# Altium integrated library ControllorBord.IntLib: 32 symbols
Pins are listed as number, name and electrical type; pins without a type are passive.

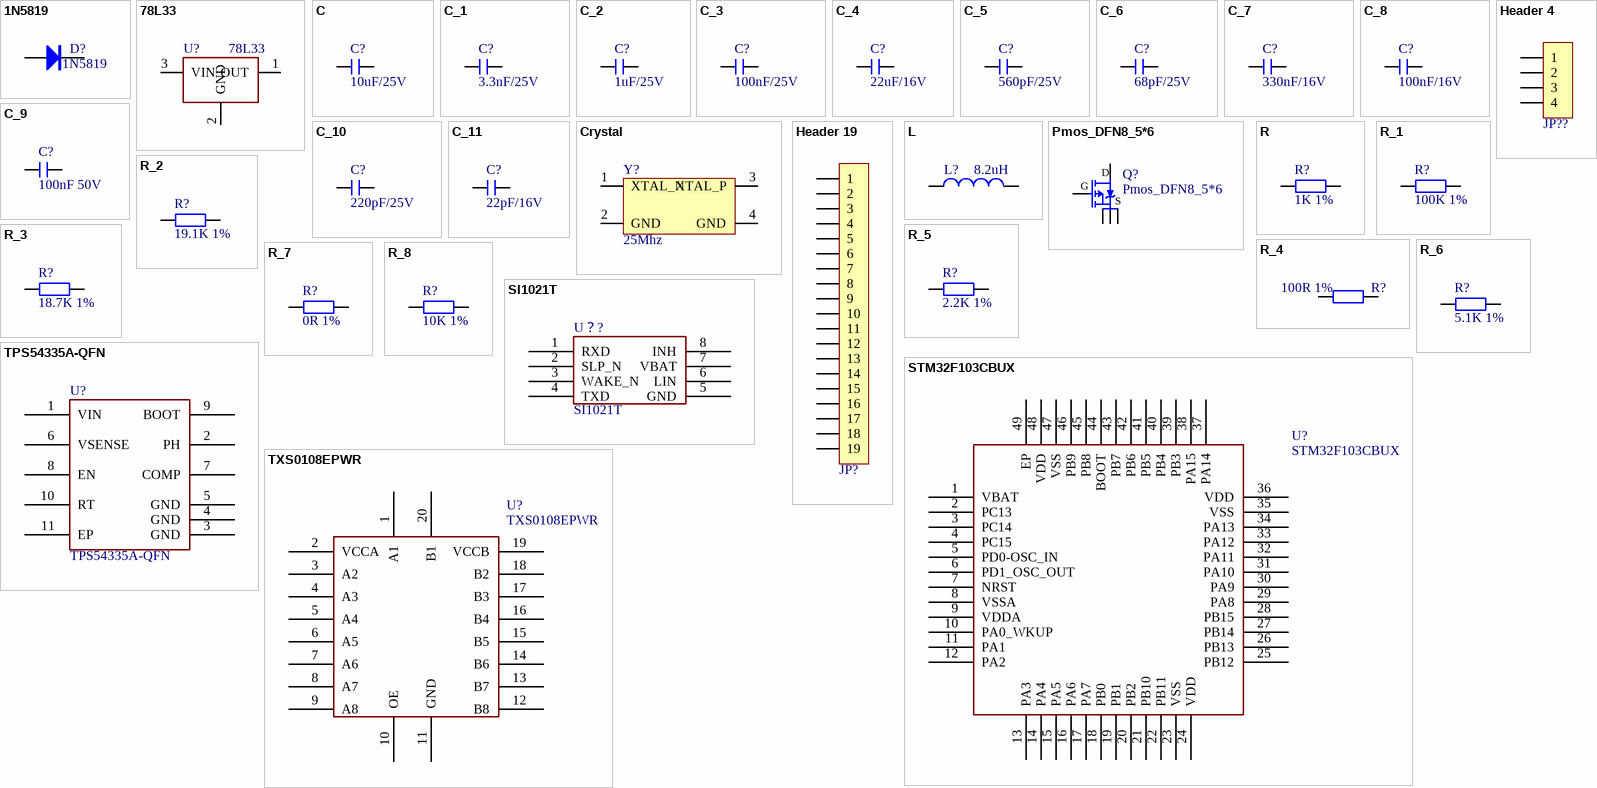
[diagram p0: symbols 1N5819 to TXS0108EPWR]

## 1N5819
designator D?
肖特基二极管; 版权归属: 源创客; 属性: 40V/2A; BOM名称: 肖特基二极管; 学习资源: www.ooocke.com
footprint SOD-323 (1.8x1.3X0.9mm（长宽高，不包括引脚）)
footprint SOD-123 (2.7x1.6X1.1mm（长宽高，不包括引脚）)
pins: 1 A, 2 K

## 78L33
designator U?
footprint SOT89_L (4.6x4.3x1.6mm(长宽高))
pins: 1 OUT, 2 GND, 3 VIN

## C
designator C?, comment 10uF/25V
无极性贴片电容; 版权归属: 源创客; 材质: X7R; BOM名称: 无极性贴片电容; 学习资源: www.ooocke.com
footprint c0603_l (贴片MLCC电容)
pins: 1, 2

## C_1
designator C?, comment 3.3nF/25V
无极性贴片电容; 版权归属: 源创客; 材质: X7R; BOM名称: 无极性贴片电容; 学习资源: www.ooocke.com
footprint c0603_l (贴片MLCC电容)
pins: 1, 2

## C_2
designator C?, comment 1uF/25V
无极性贴片电容; 版权归属: 源创客; 材质: X7R; BOM名称: 无极性贴片电容; 学习资源: www.ooocke.com
footprint c0603_l (贴片MLCC电容)
pins: 1, 2

## C_3
designator C?, comment 100nF/25V
无极性贴片电容; 版权归属: 源创客; 材质: X7R; BOM名称: 无极性贴片电容; 学习资源: www.ooocke.com
footprint c0603_l (贴片MLCC电容)
pins: 1, 2

## C_4
designator C?, comment 22uF/16V
无极性贴片电容; 版权归属: 源创客; 材质: X7R; BOM名称: 无极性贴片电容; 学习资源: www.ooocke.com
footprint c0603_l (贴片MLCC电容)
pins: 1, 2

## C_5
designator C?, comment 560pF/25V
无极性贴片电容; 版权归属: 源创客; 材质: X7R; BOM名称: 无极性贴片电容; 学习资源: www.ooocke.com
footprint c0603_l (贴片MLCC电容)
pins: 1, 2

## C_6
designator C?, comment 68pF/25V
无极性贴片电容; 版权归属: 源创客; 材质: X7R; BOM名称: 无极性贴片电容; 学习资源: www.ooocke.com
footprint c0603_l (贴片MLCC电容)
pins: 1, 2

## C_7
designator C?, comment 330nF/16V
无极性贴片电容; 版权归属: 源创客; 材质: X7R; BOM名称: 无极性贴片电容; 学习资源: www.ooocke.com
footprint c0603_l (贴片MLCC电容)
pins: 1, 2

## C_8
designator C?, comment 100nF/16V
无极性贴片电容; 版权归属: 源创客; 材质: X7R; BOM名称: 无极性贴片电容; 学习资源: www.ooocke.com
footprint c0603_l (贴片MLCC电容)
pins: 1, 2

## C_9
designator C?, comment 100nF 50V
无极性贴片电容; 版权归属: 源创客; 材质: X7R; BOM名称: 无极性贴片电容; 学习资源: www.ooocke.com
footprint c0603_l (贴片MLCC电容)
pins: 1, 2

## C_10
designator C?, comment 220pF/25V
无极性贴片电容; 版权归属: 源创客; 材质: X7R; BOM名称: 无极性贴片电容; 学习资源: www.ooocke.com
footprint c0603_l (贴片MLCC电容)
pins: 1, 2

## C_11
designator C?, comment 22pF/16V
无极性贴片电容; 版权归属: 源创客; 材质: X7R; BOM名称: 无极性贴片电容; 学习资源: www.ooocke.com
footprint c0603_l (贴片MLCC电容)
pins: 1, 2

## Crystal
designator Y?, comment 25Mhz
footprint OSC 3225-4P (3.2*2.5*0.7mm(长宽高))
pins: 1 XTAL_N, 2 GND, 3 XTAL_P, 4 GND

## Header 4
designator JP??, comment HDR-1X4  (value not drawn)
4P接插件; 版权归属: 源创客; BOM名称: 4P接插件; 学习资源: www.ooocke.com
footprint HDR2.54-WI-4P (弯脚排针，4脚)
pins: 1, 2, 3, 4

## Header 19
designator JP?, comment HDR-1X19  (value not drawn)
19P接插件; 版权归属: 源创客; BOM名称: 19P接插件; 学习资源: www.ooocke.com
footprint 贴片排母2.54mm_交错_19P (贴片排母2.54mm_交错_16P)
pins: 1, 2, 3, 4, 5, 6, 7, 8, 9, 10, 11, 12, 13, 14, 15, 16, 17, 18, 19

## L
designator L?, comment 8.2uH
小功率贴片电感; 版权归属: 源创客; BOM名称: 小功率贴片电感; 学习资源: www.ooocke.com
footprint NR4020 (4.0mm*4.0mm*2.0mm(长*宽*高）)
pins: 1, 2

## Pmos_DFN8_5*6
designator Q?
BOM名称: 场效应管; 版权归属: 源创客; 描述: P沟道 30V/4.2A; 学习资源: www.ooocke.com
footprint DFN8_5*6 (TDSON, 8-Leads, Body 6.15x5.15mm, Pitch 1.27mm)
pins: 1 S, 2 S, 3 S, 4 G, 5 D

## R
designator R?, comment 1K 1%
贴片电阻; 版权归属: 源创客; BOM名称: 贴片电阻; 学习资源: www.ooocke.com
footprint r0603_l (1/10W贴片电阻)
pins: 1, 2

## R_1
designator R?, comment 100K 1%
贴片电阻; 版权归属: 源创客; BOM名称: 贴片电阻; 学习资源: www.ooocke.com
footprint r0603_l (1/10W贴片电阻)
pins: 1, 2

## R_2
designator R?, comment 19.1K 1%
贴片电阻; 版权归属: 源创客; BOM名称: 贴片电阻; 学习资源: www.ooocke.com
footprint r0603_l (1/10W贴片电阻)
pins: 1, 2

## R_3
designator R?, comment 18.7K 1%
贴片电阻; 版权归属: 源创客; BOM名称: 贴片电阻; 学习资源: www.ooocke.com
footprint r0603_l (1/10W贴片电阻)
pins: 1, 2

## R_4
designator R?, comment 100R 1%
贴片电阻; 版权归属: 源创客; BOM名称: 贴片电阻; 学习资源: www.ooocke.com
footprint r0603_l (1/10W贴片电阻)
pins: 1, 2

## R_5
designator R?, comment 2.2K 1%
贴片电阻; 版权归属: 源创客; BOM名称: 贴片电阻; 学习资源: www.ooocke.com
footprint r0603_l (1/10W贴片电阻)
pins: 1, 2

## R_6
designator R?, comment 5.1K 1%
贴片电阻; 版权归属: 源创客; BOM名称: 贴片电阻; 学习资源: www.ooocke.com
footprint r0603_l (1/10W贴片电阻)
pins: 1, 2

## R_7
designator R?, comment 0R 1%
贴片电阻; 版权归属: 源创客; BOM名称: 贴片电阻; 学习资源: www.ooocke.com
footprint r0603_l (1/10W贴片电阻)
pins: 1, 2

## R_8
designator R?, comment 10K 1%
贴片电阻; 版权归属: 源创客; BOM名称: 贴片电阻; 学习资源: www.ooocke.com
footprint r0603_l (1/10W贴片电阻)
pins: 1, 2

## SI1021T
designator U？?
SI1021T LIN收发器
footprint SOP8 (联系卖家 免费查找封装)
pins: 1 RXD, 2 SLP_N, 3 WAKE_N, 4 TXD, 5 GND, 6 LIN, 7 VBAT, 8 INH

## STM32F103CBUX
designator U?
footprint QFN48 7X7_M (48脚，长x宽x高：7x7x1mm，脚距：0.5mm)
pins: 1 VBAT, 2 PC13, 3 PC14, 4 PC15, 5 PD0-OSC_IN, 6 PD1_OSC_OUT, 7 NRST, 8 VSSA, 9 VDDA, 10 PA0_WKUP, 11 PA1, 12 PA2, 13 PA3, 14 PA4, 15 PA5, 16 PA6, 17 PA7, 18 PB0, 19 PB1, 20 PB2, 21 PB10, 22 PB11, 23 VSS, 24 VDD, 25 PB12, 26 PB13, 27 PB14, 28 PB15, 29 PA8, 30 PA9, 31 PA10, 32 PA11, 33 PA12, 34 PA13, 35 VSS, 36 VDD, 37 PA14, 38 PA15, 39 PB3, 40 PB4, 41 PB5, 42 PB6, 43 PB7, 44 BOOT, 45 PB8, 46 PB9, 47 VSS, 48 VDD, 49 EP

## TPS54335A-QFN
designator U?
BUCK
footprint VSON-10_L3.0-W3.0-P0.50-TL-EP
pins: 1 VIN, 2 PH, 3 GND, 4 GND, 5 GND, 6 VSENSE, 7 COMP, 8 EN, 9 BOOT, 10 RT, 11 EP

## TXS0108EPWR
designator U?
适用于开漏和推挽应用的八位双向电压电平转换器
footprint TXS0108ERGYR
pins: 1 A1, 2 VCCA, 3 A2, 4 A3, 5 A4, 6 A5, 7 A6, 8 A7, 9 A8, 10 OE, 11 GND, 12 B8, 13 B7, 14 B6, 15 B5, 16 B4, 17 B3, 18 B2, 19 VCCB, 20 B1